# EAGLE library part PIC16C745? (library microchip16c7xx)
EPROM based microcontroler USB 1.1 8K /ROM- 256 Bytes RAM
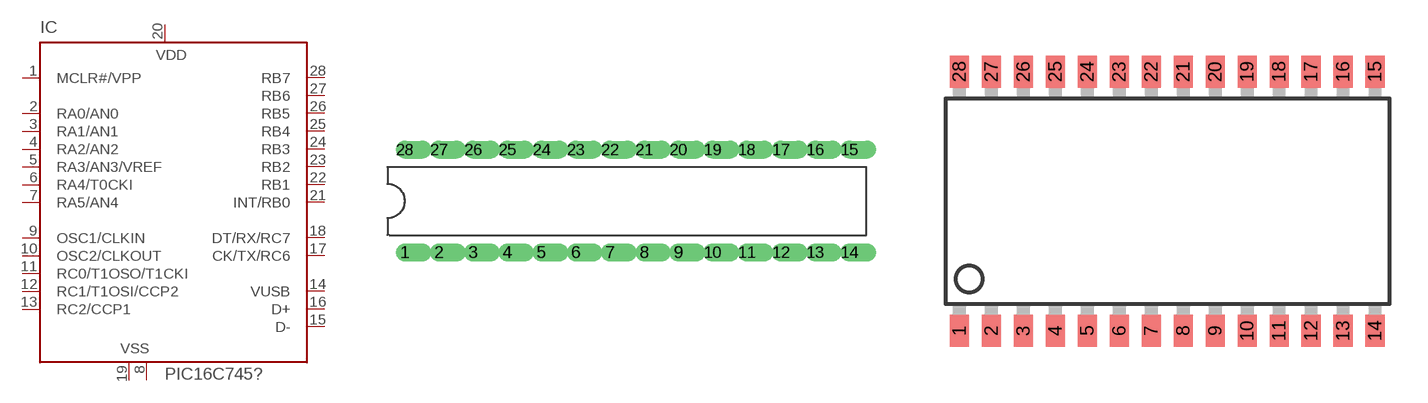
[diagram p0: symbol with the pads of DIL28-3; footprints DIL28-3, SO28-W]

Designator prefix IC

## PIC16C745SP  [DIL28-3]
1  MCLR#/VPP  in
2  RA0/AN0
3  RA1/AN1
4  RA2/AN2
5  RA3/AN3/VREF
6  RA4/T0CKI
7  RA5/AN4
8  VSS  pwr
9  OSC1/CLKIN  in
10  OSC2/CLKOUT  out
11  RC0/T1OSO/T1CKI
12  RC1/T1OSI/CCP2
13  RC2/CCP1
14  VUSB  out
15  D-
16  D+
17  CK/TX/RC6
18  DT/RX/RC7
19  VSS  pwr
20  VDD  pwr
21  INT/RB0
22  RB1
23  RB2
24  RB3
25  RB4
26  RB5
27  RB6
28  RB7

## PIC16C745JW  [DIL28-3]
Pads as for DIL28-3

## PIC16C745SO  [SO28-W]
Pads as for DIL28-3

## Footprint DIL28-3 (pad centres in mm)
Dual In Line package type SP
drill 0.813 offset: 1 -16.51,-3.81; 2 -13.97,-3.81; 3 -11.43,-3.81; 4 -8.89,-3.81; 5 -6.35,-3.81; 6 -3.81,-3.81; 7 -1.27,-3.81; 8 1.27,-3.81; 9 3.81,-3.81; 10 6.35,-3.81; 11 8.89,-3.81; 12 11.43,-3.81; 13 13.97,-3.81; 14 16.51,-3.81; 15 16.51,3.81; 16 13.97,3.81; 17 11.43,3.81; 18 8.89,3.81; 19 6.35,3.81; 20 3.81,3.81; 21 1.27,3.81; 22 -1.27,3.81; 23 -3.81,3.81; 24 -6.35,3.81; 25 -8.89,3.81; 26 -11.43,3.81; 27 -13.97,3.81; 28 -16.51,3.81

## Footprint SO28-W (pad centres in mm)
Small Outline Wide Plastic Gull Wing 300-mil body, package type SO
smd 0.762 x 1.27: 1 -8.89,-5.207; 2 -7.62,-5.207; 3 -6.35,-5.207; 4 -5.08,-5.207; 5 -3.81,-5.207; 6 -2.54,-5.207; 7 -1.27,-5.207; 8 0,-5.207; 9 1.27,-5.207; 10 2.54,-5.207; 11 3.81,-5.207; 12 5.08,-5.207; 13 6.35,-5.207; 14 7.62,-5.207; 15 7.62,5.08; 16 6.35,5.08; 17 5.08,5.08; 18 3.81,5.08; 19 2.54,5.08; 20 1.27,5.08; 21 0,5.08; 22 -1.27,5.08; 23 -2.54,5.08; 24 -3.81,5.08; 25 -5.08,5.08; 26 -6.35,5.08; 27 -7.62,5.08; 28 -8.89,5.08